# Altium footprint library SpectrumAnalyzer_Footprints.PcbLib: 23 footprints (part 2 of 2)
Each footprint in its own frame and in the unit in brackets; x right, y up, seen from the top. Pads: shape width x height; smd on the part's side, far side on the other; paste and mask are expansions set on the pad; w line width, h text height; cw(c..) or ccw(c..) is an arc to the next point about the centre after c.
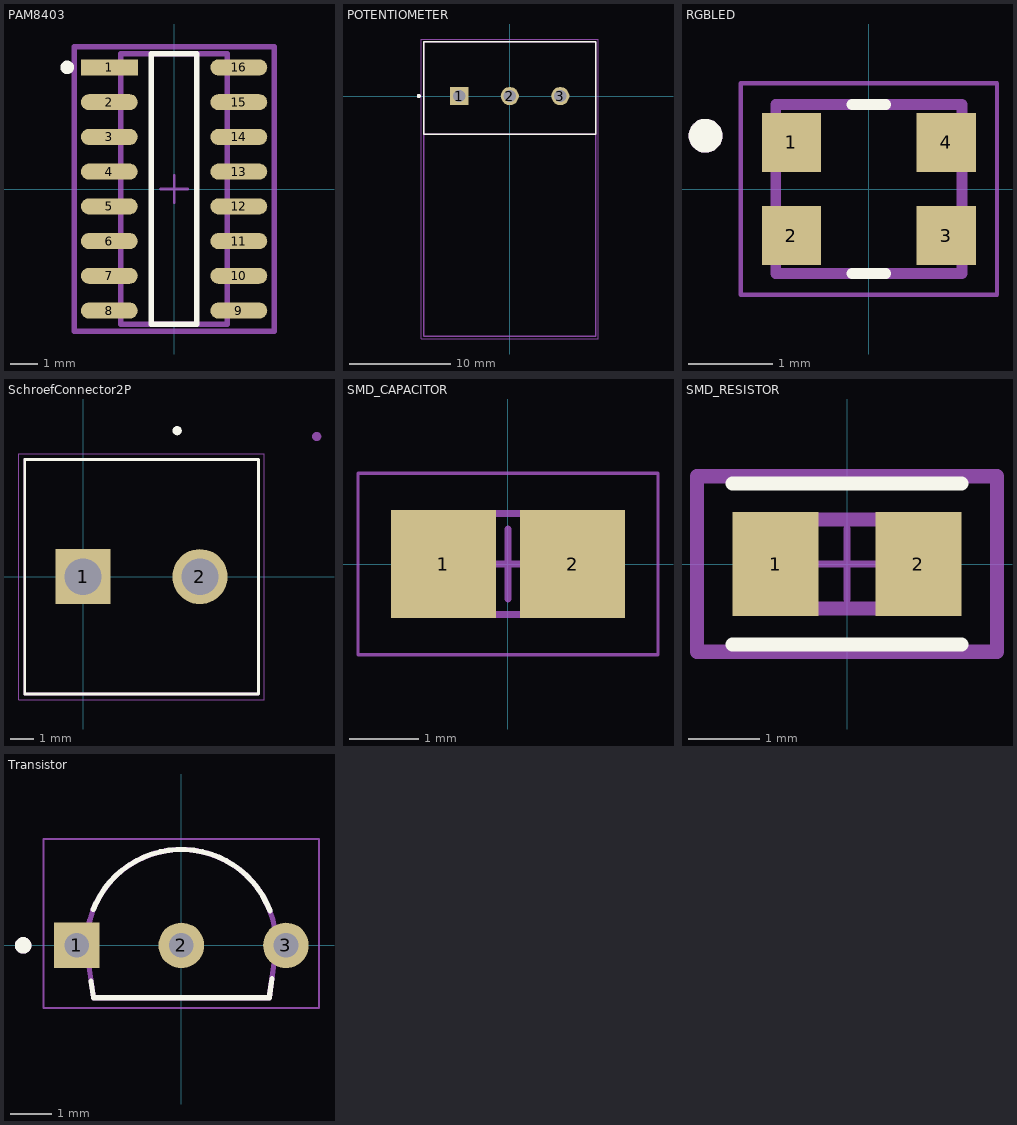
[diagram p1: the footprints below, top view; thin cyan lines are the x and y axes]

## PAM8403 [mm] "FP-SO-16-IPC_B"
pads (16):
  rect 2.077x0.582 smd paste+0 mask+0: 1(-2.368,4.445)
  rrect100% 2.077x0.582 smd paste+0 mask+0: 2(-2.368,3.175) 3(-2.368,1.905) 4(-2.368,0.635) 5(-2.368,-0.635) 6(-2.368,-1.905) 7(-2.368,-3.175) 8(-2.368,-4.445) 9(2.368,-4.445) 10(2.368,-3.175) 11(2.368,-1.905) 12(2.368,-0.635) 13(2.368,0.635) 14(2.368,1.905) 15(2.368,3.175) 16(2.368,4.445)
Top Overlay:
  circle w0.25: c-3.906,4.445 r0.125
  lines w0.2: -0.829,-4.95 0.829,-4.95 0.829,4.95 -0.829,4.95 -0.829,-4.95
Top Assembly:
  lines w0.2: -3.656,-5.2 3.656,-5.2 3.656,5.2 -3.656,5.2 -3.656,-5.2
  text ".Designator" at 0,0.188 h1
Top 3D Body:
  lines w0.2: -1.95,-4.95 1.95,-4.95 1.95,4.95 -1.95,4.95 -1.95,-4.95
Top Courtyard:
  lines w0.2: -3.656,-5.2 3.656,-5.2 3.656,5.2 -3.656,5.2 -3.656,-5.2
Top Component Center:
  lines w0.1: -0.5,0 0.5,0 ; 0,-0.5 0,0.5
3D body "IC_Diodes_Inc_PAM8403DR_eec.STEP": height 0.25, standoff 0, extent -3.656,-5.2 3.656,5.2

## POTENTIOMETER [mm] "TRIM_WH148-1A-2-18T-L20"
height 21
pads (3):
  rect 1.8x1.8 / inner round 1.8 / far side rect 1.8x1.8 hole 1.2 mask+0.102: 1(-5,0)
  round 1.8 hole 1.2 mask+0.102: 2(0,0) 3(5,0)
Top Overlay:
  circle w0.2: c-9,0 r0.1
  lines w0.127: -8.5,-3.8 8.5,-3.8 8.5,5.4 -8.5,5.4 -8.5,-3.8
Top 3D Body:
  circle w0.2: c-9,0 r0.1
  lines w0.127: -8.5,-3.8 8.5,-3.8 ; -8.5,-3.8 -8.5,5.4 8.5,5.4 8.5,-3.8 ; -8.5,-3.8 -8.5,-23.8 8.5,-23.8 8.5,-3.8
Top Courtyard:
  lines w0.05: -8.75,-24.05 -8.75,5.65 8.75,5.65 8.75,-24.05 -8.75,-24.05
3D body "step_temp.STEP": height 21, standoff -4, extent -8.5,-23.8 8.5,5.4

## RGBLED [mm] "LED_WS2812B2020"
height 0.84
pads (4):
  rect 0.7x0.7 smd: 1(-0.915,0.55) 2(-0.915,-0.55) 3(0.915,-0.55) 4(0.915,0.55)
Top Overlay:
  circle w0.2: c-1.931,0.63 r0.1
  lines w0.127: -0.2,-1 0.2,-1 ; -0.2,1 0.2,1
Top 3D Body:
  circle w0.2: c-1.931,0.63 r0.1
  lines w0.127: -1.1,-1 -1.1,1 1.1,1 1.1,-1 -1.1,-1
Top Courtyard:
  lines w0.05: -1.515,-1.25 1.515,-1.25 1.515,1.25 -1.515,1.25 -1.515,-1.25
3D body "step_temp.STEP": height 0.84, standoff 0, extent -1.1,-1 1.1,1

## SchroefConnector2P [mm] "CUI_TB004-508-02BE"
pads (2):
  rect 2.4x2.4 / inner round 2.4 / far side rect 2.4x2.4 hole 1.6 mask+0.102: 1(0,0)
  round 2.4 hole 1.6 mask+0.102: 2(5.08,0)
Top Overlay:
  lines w0.127: -2.54,-5.1 -2.54,5.1 7.62,5.1 7.62,-5.1 -2.54,-5.1
  lines w0.2: 4.191,6.35 cw(c4.091,6.35) 4.191,6.352
Top 3D Body:
  circle w0.2: c10.16,6.096 r0.1
  lines w0.127: -2.54,-5.1 -2.54,5.1 7.62,5.1 7.62,-5.1 -2.54,-5.1
Top Courtyard:
  lines w0.05: -2.79,-5.35 7.87,-5.35 7.87,5.35 -2.79,5.35 -2.79,-5.35
3D body "step_temp.STEP": height 14.1, standoff -3.5, extent -2.586,-5.12 8.174,5.08

## SMD_CAPACITOR [mm] "CAPC2013X145X48ML20T23Chip Capacitor, 2-Leads, Body 2.00x1.25mm, IPC Low Density"
height 1.45
pads (2):
  rect 1.5x1.55 smd: 1(-0.925,0) 2(0.925,0)
Top 3D Body:
  lines w0.1: -1.1,-0.725 -1.1,0.725 1.1,0.725 1.1,-0.725 -1.1,-0.725
Top Courtyard:
  lines w0.05: -2.15,-1.3 -2.15,1.3 2.15,1.3 2.15,-1.3 -2.15,-1.3
  lines w0.1: -0.5,0 0.5,0 ; 0,-0.5 0,0.5
3D body: height 1.45, standoff 0, extent -0.62,-0.725 0.62,0.725
3D body: height 1.45, standoff 0, extent -1.1,-0.725 -0.62,0.725
3D body: height 1.45, standoff 0, extent 0.62,-0.725 1.1,0.725

## SMD_RESISTOR [mm] "FP-RT0805-IPC_A"
pads (2):
  rect 1.208x1.462 smd paste+0 mask+0: 1(-1.002,0) 2(1.002,0)
Top Overlay:
  lines w0.2: -1.606,-1.131 1.606,-1.131 ; -1.606,1.131 1.606,1.131
Top Assembly:
  lines w0.2: -2.106,-1.231 2.106,-1.231 2.106,1.231 -2.106,1.231 -2.106,-1.231
  text ".Designator" at 0,0.188 h1
Top 3D Body:
  lines w0.2: -1,-0.625 1,-0.625 1,0.625 -1,0.625 -1,-0.625
Top Courtyard:
  lines w0.2: -2.106,-1.231 2.106,-1.231 2.106,1.231 -2.106,1.231 -2.106,-1.231
Top Component Center:
  lines w0.1: -0.5,0 0.5,0 ; 0,-0.5 0,0.5
3D body "Res_Yageo_RT0805WRB07165RL_eec.STEP": height 0.25, standoff 0, extent -2.106,-1.231 2.106,1.231

## Transistor [mm] "TRANS_BC547C"
pads (3):
  rect 1.108x1.108 / inner round 1.108 / far side rect 1.108x1.108 hole 0.6 mask+0.102: 1(-2.54,0)
  round 1.108 hole 0.6 mask+0.102: 2(0,0) 3(2.54,0)
Top Overlay:
  circle w0.2: c-3.844,0 r0.1
  lines w0.127: -2.192,-0.874 -2.137,-1.27 2.134,-1.27 2.2,-0.805 ; -2.138,0.874 -2.07,1.032 -1.972,1.213 -1.859,1.385 -1.73,1.546 -1.587,1.694 -1.432,1.83 -1.265,1.951 -1.088,2.056 -0.903,2.146 -0.71,2.218 -0.511,2.273 -0.308,2.309 -0.103,2.328 0.103,2.328 0.308,2.309 0.511,2.273 0.71,2.218 0.903,2.146 1.088,2.056 1.265,1.951 1.432,1.83 1.587,1.694 1.73,1.546 1.859,1.385 1.972,1.213 2.07,1.032 2.152,0.842
Top 3D Body:
  circle w0.2: c-3.844,0 r0.1
  lines w0.127: -2.291,-0.17 cw(c0,0.03) 2.291,-0.17 2.289,-0.17 2.134,-1.27 -2.137,-1.27 -2.291,-0.17
Top Courtyard:
  lines w0.05: -3.344,-1.52 3.344,-1.52 3.344,2.58 -3.344,2.58 -3.344,-1.52
3D body "step_temp.STEP": height 2.3, standoff -1.3, extent -2.74,-4.6 2.74,12.5